# Altium integrated library BLUETOOTH-SERIAL-HC-06.IntLib: 1 symbol
Pins are listed as number, name and electrical type; pins without a type are passive.

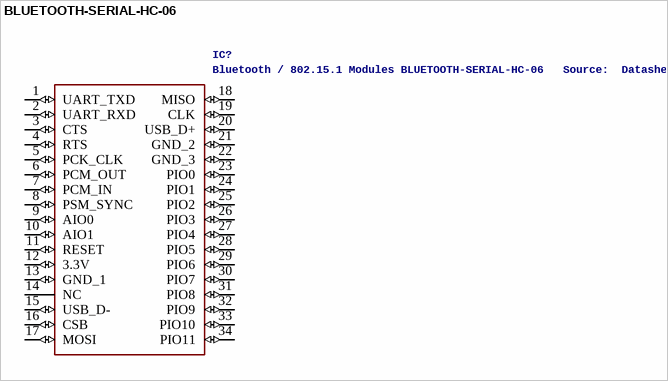
[diagram p0: symbol BLUETOOTH-SERIAL-HC-06]

## BLUETOOTH-SERIAL-HC-06
designator IC?, comment Bluetooth / 802.15.1 Modules BLUETOOTH-SERIAL-HC-06   Source:  Datasheet
Manufacturer_Name: Olimex Ltd.; GateName_1: G$1; SymbolName_1: BLUETOOTH-SERIAL-HC-06; LibraryName: BLUETOOTH-SERIAL-HC-06; DeviceSetName: BLUETOOTH-SERIAL-HC-06; Mouser_Part_Number: 909-BLE-SERIAL-HC-06; Mouser_Price-Stock: https://www.mouser.com/Search/Refine.aspx?Keyword=909-BLE-SERIAL-HC-06; Manufacturer_Part_Number: BLUETOOTH-SERIAL-HC-06; Description: Bluetooth / 802.15.1 Modules BLUETOOTH-SERIAL-HC-06; Height: 2mm
footprint BLUETOOTHSERIALHC06
pins: 1 UART_TXD (io), 2 UART_RXD (io), 3 CTS (io), 4 RTS (io), 5 PCK_CLK (io), 6 PCM_OUT (io), 7 PCM_IN (io), 8 PSM_SYNC (io), 9 AIO0 (io), 10 AIO1 (io), 11 RESET (io), 12 3.3V (io), 13 GND_1 (io), 14 NC, 15 USB_D- (io), 16 CSB (io), 17 MOSI (io), 18 MISO (io), 19 CLK (io), 20 USB_D+ (io), 21 GND_2 (io), 22 GND_3 (io), 23 PIO0 (io), 24 PIO1 (io), 25 PIO2 (io), 26 PIO3 (io), 27 PIO4 (io), 28 PIO5 (io), 29 PIO6 (io), 30 PIO7 (io), 31 PIO8 (io), 32 PIO9 (io), 33 PIO10 (io), 34 PIO11 (io)